# Altium schematic symbol library Schlib.SchLib: 1 symbol
Pins are listed as number, name and electrical type; pins without a type are passive.

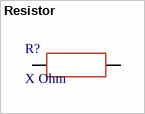
[diagram p0: symbol Resistor]

## Resistor
designator R?, comment X Ohm
Резистор; Value: X Ohm
footprint RC0805_3D
footprint RC1206
pins: 1, 2